# EAGLE library part MAX9744 (library gee_s)
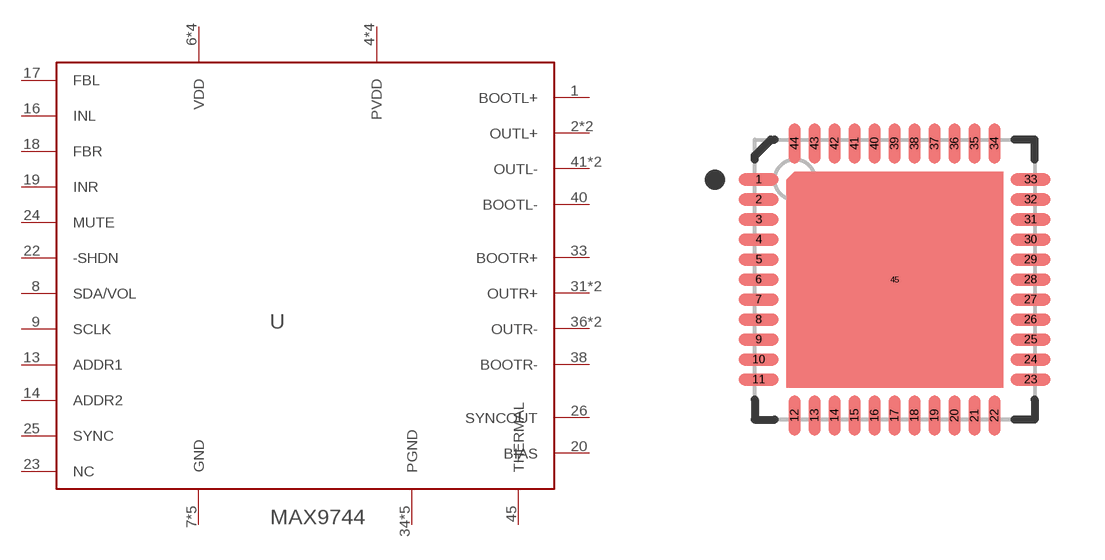
[diagram p4: symbol with the pads of QFN50P700X700X100-45N; footprint QFN50P700X700X100-45N]

Designator prefix -

## MAX9744  [QFN50P700X700X100-45N]
1  BOOTL+
2  OUTL+
3  OUTL+
4  PVDD
5  PVDD
6  VDD
7  GND
8  SDA/VOL
9  SCLK
10  VDD
11  GND
12  GND
13  ADDR1
14  ADDR2
15  GND
16  INL
17  FBL
18  FBR
19  INR
20  BIAS
21  VDD
22  -SHDN
23  NC
24  MUTE
25  SYNC
26  SYNCOUT
27  GND
28  VDD
29  PVDD
30  PVDD
31  OUTR+
32  OUTR+
33  BOOTR+
34  PGND
35  PGND
36  OUTR-
37  OUTR-
38  BOOTR-
39  PGND
40  BOOTL-
41  OUTL-
42  OUTL-
43  PGND
44  PGND
45  THERMAL

## Footprint QFN50P700X700X100-45N (pad centres in mm)
VQFN 44
smd 1 x 0.3: 1 -3.4,2.5; 2 -3.4,2; 3 -3.4,1.5; 4 -3.4,1; 5 -3.4,0.5; 6 -3.4,0; 7 -3.4,-0.5; 8 -3.4,-1; 9 -3.4,-1.5; 10 -3.4,-2; 11 -3.4,-2.5; 23 3.4,-2.5; 24 3.4,-2; 25 3.4,-1.5; 26 3.4,-1; 27 3.4,-0.5; 28 3.4,0; 29 3.4,0.5; 30 3.4,1; 31 3.4,1.5; 32 3.4,2; 33 3.4,2.5
smd 0.3 x 1: 12 -2.5,-3.4; 13 -2,-3.4; 14 -1.5,-3.4; 15 -1,-3.4; 16 -0.5,-3.4; 17 0,-3.4; 18 0.5,-3.4; 19 1,-3.4; 20 1.5,-3.4; 21 2,-3.4; 22 2.5,-3.4; 34 2.5,3.4; 35 2,3.4; 36 1.5,3.4; 37 1,3.4; 38 0.5,3.4; 39 0,3.4; 40 -0.5,3.4; 41 -1,3.4; 42 -1.5,3.4; 43 -2,3.4; 44 -2.5,3.4
smd 0.212 x 0.212: 45 0,0